# EAGLE library part YELLOW_CAR_DRV8834 (library main)
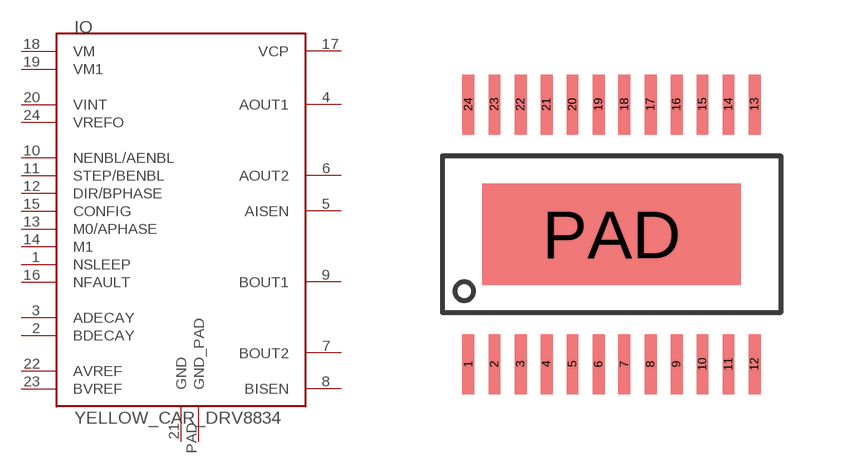
[diagram p4: symbol with the pads of YELLOW_CAR_DRV8834_PCK; footprint YELLOW_CAR_DRV8834_PCK]

Designator prefix IO

## YELLOW_CAR_DRV8834  [YELLOW_CAR_DRV8834_PCK]
1  NSLEEP
2  BDECAY
3  ADECAY
4  AOUT1
5  AISEN
6  AOUT2
7  BOUT2
8  BISEN
9  BOUT1
10  NENBL/AENBL
11  STEP/BENBL
12  DIR/BPHASE
13  M0/APHASE
14  M1
15  CONFIG
16  NFAULT
17  VCP
18  VM
19  VM1
20  VINT
21  GND
22  AVREF
23  BVREF
24  VREFO
PAD  GND_PAD

## Footprint YELLOW_CAR_DRV8834_PCK (pad centres in mm)
smd 0.3 x 1.5: 1 -3.575,-3.25; 2 -2.925,-3.25; 3 -2.275,-3.25; 4 -1.625,-3.25; 5 -0.975,-3.25; 6 -0.325,-3.25; 7 0.325,-3.25; 8 0.975,-3.25; 9 1.625,-3.25; 10 2.275,-3.25; 11 2.925,-3.25; 12 3.575,-3.25; 13 3.575,3.25; 14 2.925,3.25; 15 2.275,3.25; 16 1.625,3.25; 17 0.975,3.25; 18 0.325,3.25; 19 -0.325,3.25; 20 -0.975,3.25; 21 -1.625,3.25; 22 -2.275,3.25; 23 -2.925,3.25; 24 -3.575,3.25
smd 6.452 x 2.54: PAD 0,0